# Altium footprint library Relay.PcbLib: 10 footprints
Each footprint in its own frame and in the unit in brackets; x right, y up, seen from the top. Pads: shape width x height; smd on the part's side, far side on the other; paste and mask are expansions set on the pad; w line width, h text height; cw(c..) or ccw(c..) is an arc to the next point about the centre after c.
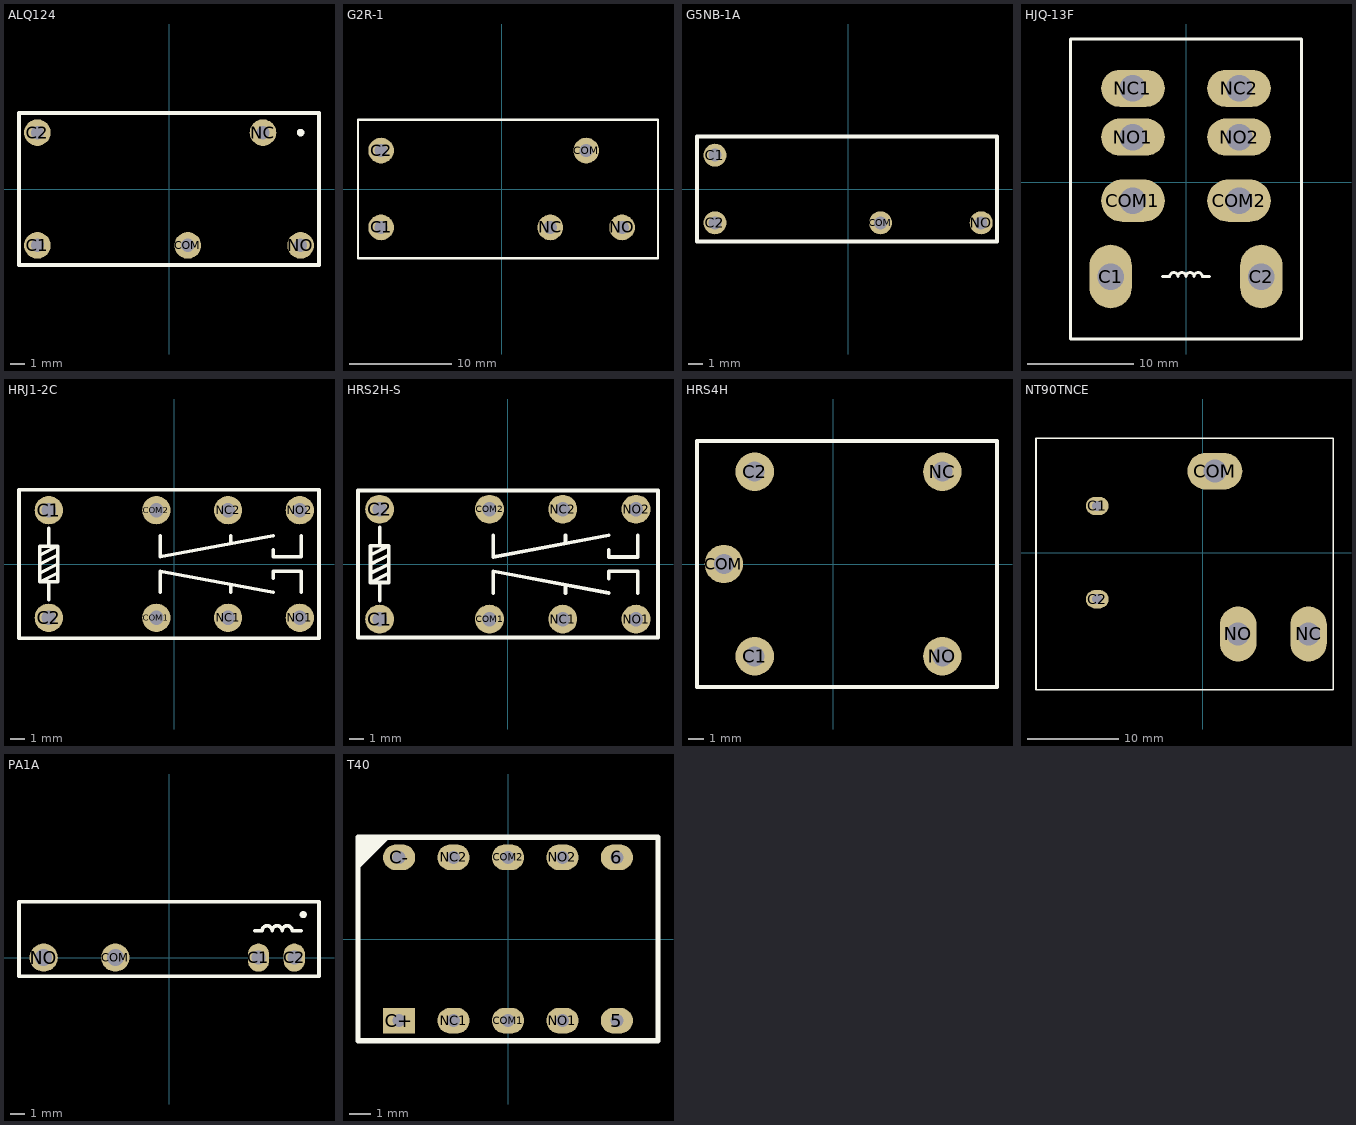
[diagram p0: the footprints below, top view; thin cyan lines are the x and y axes]

## ALQ124 [mm] "Panasonic ALQ Form C Relay"
height 15.6
pads (5):
  round 1.8 hole 0.9: C1(-8.89,-3.81) C2(-8.89,3.81) COM(1.27,-3.81) NC(6.35,3.81) NO(8.89,-3.81)
Top Overlay:
  circle w0.254: c8.89,3.81 r0.13
  lines w0.254: -10.135,-5.131 -10.135,5.131 10.135,5.131 10.135,-5.131 -10.135,-5.131
3D body "ALQ Relay.STEP": height 15.7, standoff -4.1, extent -10,-5 10,5

## G2R-1 [mm]
pads (5):
  round 2.5 hole 1.3: C1(-11.75,-3.75) C2(-11.75,3.75) COM(8.25,3.75) NC(4.75,-3.75) NO(11.75,-3.75)
Top Overlay:
  lines w0.2: -14,-6.75 15.25,-6.75 15.25,6.75 -14,6.75 -14,-6.75
3D body "G2R-1.STEP": height 25.2, standoff -4.3, extent -13.85,-6.5 15.15,6.5

## G5NB-1A [mm]
pads (4):
  round 1.6 hole 0.9: C1(-9.25,2.35) C2(-9.25,-2.35) COM(2.25,-2.35) NO(9.25,-2.35)
Top Overlay:
  lines w0.254: -10.5,-3.65 -10.5,3.65 10.35,3.65 10.35,-3.65 -10.5,-3.65
3D body "G5NB-1A.STEP": height 15, standoff -3.4, extent -10.3,-3.5 10.2,3.5

## HJQ-13F [mm]
height 37
pads (8):
  oval 4x6 hole 2.5: C1(-7.1,-8.875) C2(7.1,-8.875)
  oval 6x4 hole 2.5: COM1(-5,-1.725) COM2(5,-1.725)
  oval 6x3.5 hole 2.5: NC1(-5,8.875) NC2(5,8.875) NO1(-5,4.275) NO2(5,4.275)
Top Overlay:
  lines w0.254: -2.21,-8.875 -1.524,-8.875 cw(c-1.143,-8.875) -1.143,-8.494 cw(c-1.143,-8.875) -0.762,-8.875 cw(c-0.381,-8.875) -0.381,-8.494 cw(c-0.381,-8.875) 0,-8.875 cw(c0.381,-8.875) 0.381,-8.494 cw(c0.381,-8.875) 0.762,-8.875 cw(c1.143,-8.875) 1.143,-8.494 cw(c1.143,-8.875) 1.524,-8.875 2.21,-8.875 ; -10.897,-14.768 10.897,-14.768 10.897,13.528 -10.897,13.528 -10.897,-14.768
3D body "HJQ-13F.STEP": height 37.4, standoff -4, extent -10.75,-14.625 10.75,13.375

## HRJ1-2C [mm]
height 12
pads (8):
  round 2 hole 1: C1(-8.89,3.81) C2(-8.89,-3.81) COM1(-1.27,-3.81) COM2(-1.27,3.81) NC1(3.81,-3.81) NC2(3.81,3.81) NO1(8.89,-3.81) NO2(8.89,3.81)
Top Overlay:
  lines w0.254: -9.525,-0.635 -8.255,0 ; -9.525,0 -8.255,0.635 ; -9.525,0.635 -8.255,1.27 ; -8.89,-2.54 -8.89,-1.27 ; -8.89,2.54 -8.89,1.27 ; -8.255,-0.635 -9.525,-1.27 ; -1,-2 -1,-0.5 7,-2 ; -1,2 -1,0.5 7,2 ; 4,-2 4,-1.5 ; 4,1.5 4,2 ; 7,-1 7,-0.5 9,-0.5 9,-2 ; 7,1 7,0.5 9,0.5 9,2 ; -9.525,-1.27 -8.255,-1.27 -8.255,1.27 ; -9.525,-1.27 -9.525,1.27 -8.89,1.27 ; -8.89,1.27 -8.255,1.27 ; -11,-5.25 10.25,-5.25 10.25,5.25 -11,5.25 -11,-5.25
3D body "HJR1-2C.STEP": height 11.9, standoff -3.4, extent -10.91,-5 10.09,5

## HRS2H-S [mm] "Signal Relay"
height 11.4
pads (8):
  round 2 hole 1: C1(-8.89,-3.81) C2(-8.89,3.81) COM1(-1.27,-3.81) COM2(-1.27,3.81) NC1(3.81,-3.81) NC2(3.81,3.81) NO1(8.89,-3.81) NO2(8.89,3.81)
Top Overlay:
  lines w0.254: -9.525,-0.635 -8.255,0 ; -9.525,0 -8.255,0.635 ; -9.525,0.635 -8.255,1.27 ; -8.89,-2.54 -8.89,-1.27 ; -8.89,2.54 -8.89,1.27 ; -8.255,-0.635 -9.525,-1.27 ; -1,-2 -1,-0.5 7,-2 ; -1,2 -1,0.5 7,2 ; 4,-2 4,-1.5 ; 4,1.5 4,2 ; 7,-1 7,-0.5 9,-0.5 9,-2 ; 7,1 7,0.5 9,0.5 9,2 ; -9.525,-1.27 -9.525,1.27 -8.89,1.27 ; -9.525,-1.27 -8.255,-1.27 -8.255,1.27 ; -8.89,1.27 -8.255,1.27 ; -10.389,-5.08 10.414,-5.08 10.414,5.105 -10.389,5.105 -10.389,-5.08
3D body "HRS2N-S-DC5V-N.STEP": height 11, standoff -3.8, extent -10.25,-4.94 10.25,4.96

## HRS4H [mm]
height 15.8
pads (5):
  round 2.5 hole 1.3: C1(-5.1,-6) C2(-5.1,6) COM(-7.1,0) NC(7.1,6) NO(7.1,-6)
Top Overlay:
  lines w0.254: -8.85,-8 -8.85,8 10.65,8 10.65,-8 -8.85,-8
3D body "HRS4H.STEP": height 15.5, standoff -4, extent -8.5,-7.75 10.5,7.75

## NT90TNCE [mm]
height 28
pads (5):
  oval 2.5x2 hole 1.1: C1(-11.55,5.1) C2(-11.55,-5.1)
  oval 6x4 hole 2.5: COM(1.31,8.9)
  oval 4x6 hole 2.5: NC(11.55,-8.9) NO(3.85,-8.9)
Top Overlay:
  lines w0.2: -18.25,-15 -18.25,12.5 14.25,12.5 14.25,-15 -18.25,-15
3D body "NT90T.STEP": height 28, standoff -5, extent -18.31,-15 14.09,12.5

## PA1A [mm] "PA1A RElay"
height 12.8
pads (4):
  oval 1.5x2 hole 1: C1(6.35,0) C2(8.89,0)
  round 2 hole 1.2: COM(-3.81,0) NO(-8.89,0)
Top Overlay:
  circle w0.254: c9.525,3.048 r0.127
  lines w0.254: 6.096,1.905 6.604,1.905 cw(c6.96,1.905) 6.96,2.261 cw(c6.96,1.905) 7.315,1.905 cw(c7.671,1.905) 7.671,2.261 cw(c7.671,1.905) 8.026,1.905 cw(c8.382,1.905) 8.382,2.261 cw(c8.382,1.905) 8.738,1.905 9.398,1.905 ; -10.643,-1.321 10.643,-1.321 10.643,3.962 -10.643,3.962 -10.643,-1.321
3D body "PA1a.STEP": height 12.5, standoff -3.5, extent -10.5,-1.18 10.5,3.82

## T40 [mm]
pads (10):
  oval 1.5x1.2 hole 0.6: 5(5.08,-3.81) 6(5.08,3.81) C-(-5.08,3.81) COM1(0,-3.81) COM2(0,3.81) NC1(-2.54,-3.81) NC2(-2.54,3.81) NO1(2.54,-3.81) NO2(2.54,3.81)
  rect 1.5x1.2 hole 0.6: C+(-5.08,-3.81)
Top Overlay:
  region: -7,4.75 -5.5,4.75 -7,3.25
  lines w0.254: -7,-4.75 7,-4.75 7,4.75 -7,4.75 -7,-4.75
3D body "T40.STEP": height 5.8, standoff -3.4, extent -7,-4.5 7,4.5